# EAGLE library part CBT3244A (library EagleSoftCustom)
2.7 to 5.5V 12-Bit Parallel DAC with power down
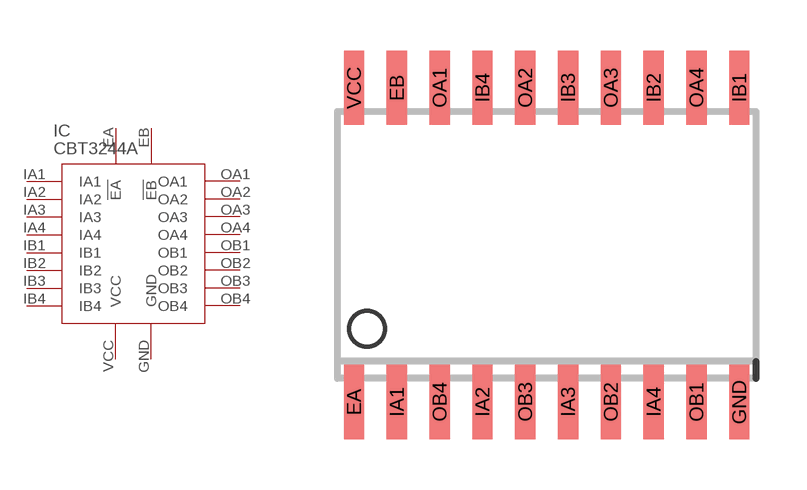
[diagram p0: symbol with the pads of SOIC-20; footprint SOIC-20]

Designator prefix IC

## CBT3244ADW  [SOIC-20]
EA  !EA  pwr
EB  !EB  pwr
GND  GND  pwr
IA1  IA1  in
IA2  IA2  in
IA3  IA3  in
IA4  IA4  in
IB1  IB1  in
IB2  IB2  in
IB3  IB3  in
IB4  IB4  in
OA1  OA1  out
OA2  OA2  out
OA3  OA3  out
OA4  OA4  out
OB1  OB1  out
OB2  OB2  out
OB3  OB3  out
OB4  OB4  out
VCC  VCC  pwr

## Footprint SOIC-20 (pad centres in mm)
smd 0.6 x 2.2: EA -5.842,-4.886; EB -4.572,4.429; GND 5.588,-4.889; IA1 -4.572,-4.886; IA2 -2.032,-4.886; IA3 0.508,-4.886; IA4 3.048,-4.886; IB1 5.588,4.432; IB2 3.048,4.429; IB3 0.508,4.429; IB4 -2.032,4.429; OA1 -3.302,4.429; OA2 -0.762,4.429; OA3 1.778,4.429; OA4 4.318,4.432; OB1 4.318,-4.889; OB2 1.778,-4.886; OB3 -0.762,-4.886; OB4 -3.302,-4.886; VCC -5.842,4.429